# Altium footprint library ElectromagneticPositioning.PcbLib: 24 footprints (part 2 of 2)
Each footprint in its own frame and in the unit in brackets; x right, y up, seen from the top. Pads: shape width x height; smd on the part's side, far side on the other; paste and mask are expansions set on the pad; w line width, h text height; cw(c..) or ccw(c..) is an arc to the next point about the centre after c.
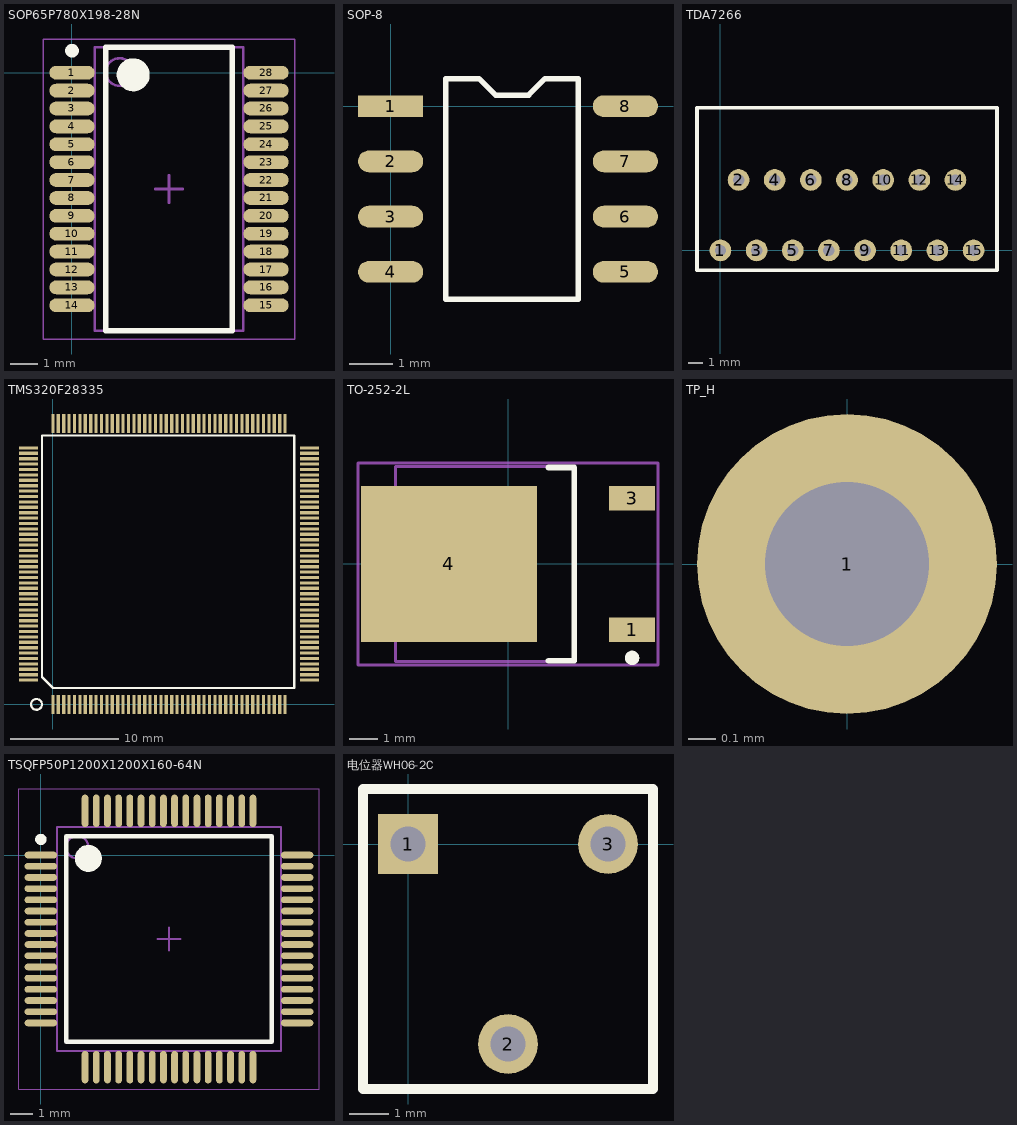
[diagram p1: the footprints below, top view; thin cyan lines are the x and y axes]

## SOP65P780X198-28N [mm]
pads (28):
  oval 1.65x0.5 smd: 1(0,0) 2(0,-0.65) 3(0,-1.3) 4(0,-1.95) 5(0,-2.6) 6(0,-3.25) 7(0,-3.9) 8(0,-4.55) 9(0,-5.2) 10(0,-5.85) 11(0,-6.5) 12(0,-7.15) 13(0,-7.8) 14(0,-8.45) 15(7.05,-8.45) 16(7.05,-7.8) 17(7.05,-7.15) 18(7.05,-6.5) 19(7.05,-5.85) 20(7.05,-5.2) 21(7.05,-4.55) 22(7.05,-3.9) 23(7.05,-3.25) 24(7.05,-2.6) 25(7.05,-1.95) 26(7.05,-1.3) 27(7.05,-0.65) 28(7.05,0)
Top Overlay:
  circle w0.6: c2.225,-0.075 r0.3
  circle w0.25: c0,0.8 r0.125
  lines w0.2: 1.225,-9.375 5.825,-9.375 5.825,0.925 1.225,0.925 1.225,-9.375
Mechanical 13:
  circle w0.1: c1.725,0.025 r0.5
  lines w0.1: 0.825,-9.375 6.225,-9.375 6.225,0.925 0.825,0.925 0.825,-9.375
Mechanical 15:
  lines w0.05: -1.05,-9.675 8.1,-9.675 8.1,1.225 -1.05,1.225 -1.05,-9.675
  lines w0.1: 3.025,-4.225 4.025,-4.225 ; 3.525,-4.725 3.525,-3.725
3D body: height 1.98, standoff 0.05, extent 0.825,-9.375 6.225,0.925

## SOP-8 [mm]
pads (8):
  rect 1.5x0.5 smd: 1(0,0)
  oval 1.5x0.5 smd: 2(0,-1.27) 3(0,-2.54) 4(0,-3.81) 5(5.4,-3.81) 6(5.4,-2.54) 7(5.4,-1.27) 8(5.4,0)
Top Overlay:
  lines w0.127: 1.27,-4.445 4.318,-4.445 4.318,0.635 3.556,0.635 3.175,0.254 2.413,0.254 2.032,0.635 1.27,0.635 1.27,-4.445

## TDA7266 [mil]
pads (15):
  round 60 hole 31.5: 1(0,0) 2(50,195) 3(100,0) 4(150,195) 5(200,0) 6(250,195) 7(300,0) 8(350,195) 9(400,0) 10(450,195) 11(500,0) 12(550,195) 13(600,0) 14(650,195) 15(700,0)
Top Overlay:
  lines w10: -65,-55 765,-55 765,395 390,395 -65,395 -65,-55

## TMS320F28335 [mm]
pads (176):
  rect 0.3x1.778 smd: 1(0,0) 2(0.5,0) 3(1,0) 4(1.5,0) 5(2,0) 6(2.5,0) 7(3,0) 8(3.5,0) 9(4,0) 10(4.5,0) 11(5,0) 12(5.5,0) 13(6,0) 14(6.5,0) 15(7,0) 16(7.5,0) 17(8,0) 18(8.5,0) 19(9,0) 20(9.5,0) 21(10,0) 22(10.5,0) 23(11,0) 24(11.5,0) 25(12,0) 26(12.5,0) 27(13,0) 28(13.5,0) 29(14,0) 30(14.5,0) 31(15,0) 32(15.5,0) 33(16,0) 34(16.5,0) 35(17,0) 36(17.5,0) 37(18,0) 38(18.5,0) 39(19,0) 40(19.5,0) 41(20,0) 42(20.5,0) 43(21,0) 44(21.5,0) 89(21.5,26) 90(21,26) 91(20.5,26) 92(20,26) 93(19.5,26) 94(19,26) 95(18.5,26) 96(18,26) 97(17.5,26) 98(17,26) 99(16.5,26) 100(16,26) 101(15.5,26) 102(15,26) 103(14.5,26) 104(14,26) 105(13.5,26) 106(13,26) 107(12.5,26) 108(12,26) 109(11.5,26) 110(11,26) 111(10.5,26) 112(10,26) 113(9.5,26) 114(9,26) 115(8.5,26) 116(8,26) 117(7.5,26) 118(7,26) 119(6.5,26) 120(6,26) 121(5.5,26) 122(5,26) 123(4.5,26) 124(4,26) 125(3.5,26) 126(3,26) 127(2.5,26) 128(2,26) 129(1.5,26) 130(1,26) 131(0.5,26) 132(0,26)
  rect 1.778x0.3 smd: 45(23.75,2.25) 46(23.75,2.75) 47(23.75,3.25) 48(23.75,3.75) 49(23.75,4.25) 50(23.75,4.75) 51(23.75,5.25) 52(23.75,5.75) 53(23.75,6.25) 54(23.75,6.75) 55(23.75,7.25) 56(23.75,7.75) 57(23.75,8.25) 58(23.75,8.75) 59(23.75,9.25) 60(23.75,9.75) 61(23.75,10.25) 62(23.75,10.75) 63(23.75,11.25) 64(23.75,11.75) 65(23.75,12.25) 66(23.75,12.75) 67(23.75,13.25) 68(23.75,13.75) 69(23.75,14.25) 70(23.75,14.75) 71(23.75,15.25) 72(23.75,15.75) 73(23.75,16.25) 74(23.75,16.75) 75(23.75,17.25) 76(23.75,17.75) 77(23.75,18.25) 78(23.75,18.75) 79(23.75,19.25) 80(23.75,19.75) 81(23.75,20.25) 82(23.75,20.75) 83(23.75,21.25) 84(23.75,21.75) 85(23.75,22.25) 86(23.75,22.75) 87(23.75,23.25) 88(23.75,23.75) 133(-2.25,23.75) 134(-2.25,23.25) 135(-2.25,22.75) 136(-2.25,22.25) 137(-2.25,21.75) 138(-2.25,21.25) 139(-2.25,20.75) 140(-2.25,20.25) 141(-2.25,19.75) 142(-2.25,19.25) 143(-2.25,18.75) 144(-2.25,18.25) 145(-2.25,17.75) 146(-2.25,17.25) 147(-2.25,16.75) 148(-2.25,16.25) 149(-2.25,15.75) 150(-2.25,15.25) 151(-2.25,14.75) 152(-2.25,14.25) 153(-2.25,13.75) 154(-2.25,13.25) 155(-2.25,12.75) 156(-2.25,12.25) 157(-2.25,11.75) 158(-2.25,11.25) 159(-2.25,10.75) 160(-2.25,10.25) 161(-2.25,9.75) 162(-2.25,9.25) 163(-2.25,8.75) 164(-2.25,8.25) 165(-2.25,7.75) 166(-2.25,7.25) 167(-2.25,6.75) 168(-2.25,6.25) 169(-2.25,5.75) 170(-2.25,5.25) 171(-2.25,4.75) 172(-2.25,4.25) 173(-2.25,3.75) 174(-2.25,3.25) 175(-2.25,2.75) 176(-2.25,2.25)
Top Overlay:
  circle w0.2: c-1.516,0 r0.5
  lines w0.203: -1.016,2.54 0,1.524 22.352,1.524 22.352,24.892 -1.016,24.892 -1.016,2.54

## TO-252-2L [mm]
pads (3):
  rect 1.6x0.85 smd: 1(4.3,-2.28) 3(4.3,2.28)
  rect 6.1x5.4 smd: 4(-2.05,0)
Top Overlay:
  circle w0.25: c4.3,-3.255 r0.125
  lines w0.2: 1.4,-3.35 2.3,-3.35 2.3,3.35 1.4,3.35
Mechanical 13:
  lines w0.1: -3.9,-3.375 2.3,-3.375 2.3,3.375 -3.9,3.375 -3.9,-3.375
Mechanical 15:
  lines w0.1: -0.5,0 0.5,0 ; 0,-0.5 0,0.5 ; -5.2,-3.5 5.2,-3.5 5.2,3.5 -5.2,3.5 -5.2,-3.5
3D body "User Library-DPAK_TO-252AA.STEP": height 2.37, standoff -0.03, extent -5.096,-3.367 5.004,3.367

## TP_H [mm]
pads (1):
  round 1.1 hole 0.6: 1(0,0)

## TSQFP50P1200X1200X160-64N [mm]
pads (64):
  oval 1.45x0.3 smd: 1(0,0) 2(0,-0.5) 3(0,-1) 4(0,-1.5) 5(0,-2) 6(0,-2.5) 7(0,-3) 8(0,-3.5) 9(0,-4) 10(0,-4.5) 11(0,-5) 12(0,-5.5) 13(0,-6) 14(0,-6.5) 15(0,-7) 16(0,-7.5) 33(11.45,-7.5) 34(11.45,-7) 35(11.45,-6.5) 36(11.45,-6) 37(11.45,-5.5) 38(11.45,-5) 39(11.45,-4.5) 40(11.45,-4) 41(11.45,-3.5) 42(11.45,-3) 43(11.45,-2.5) 44(11.45,-2) 45(11.45,-1.5) 46(11.45,-1) 47(11.45,-0.5) 48(11.45,0)
  oval 0.3x1.45 smd: 17(1.975,-9.475) 18(2.475,-9.475) 19(2.975,-9.475) 20(3.475,-9.475) 21(3.975,-9.475) 22(4.475,-9.475) 23(4.975,-9.475) 24(5.475,-9.475) 25(5.975,-9.475) 26(6.475,-9.475) 27(6.975,-9.475) 28(7.475,-9.475) 29(7.975,-9.475) 30(8.475,-9.475) 31(8.975,-9.475) 32(9.475,-9.475) 49(9.475,1.975) 50(8.975,1.975) 51(8.475,1.975) 52(7.975,1.975) 53(7.475,1.975) 54(6.975,1.975) 55(6.475,1.975) 56(5.975,1.975) 57(5.475,1.975) 58(4.975,1.975) 59(4.475,1.975) 60(3.975,1.975) 61(3.475,1.975) 62(2.975,1.975) 63(2.475,1.975) 64(1.975,1.975)
Top Overlay:
  circle w0.6: c2.125,-0.15 r0.3
  circle w0.25: c0,0.7 r0.125
  lines w0.2: 1.125,-8.35 10.325,-8.35 10.325,0.85 1.125,0.85 1.125,-8.35
Mechanical 13:
  circle w0.1: c1.625,0.35 r0.5
  lines w0.1: 0.725,-8.75 10.725,-8.75 10.725,1.25 0.725,1.25 0.725,-8.75
Mechanical 15:
  lines w0.05: -0.975,-10.45 12.425,-10.45 12.425,2.95 -0.975,2.95 -0.975,-10.45
  lines w0.1: 5.225,-3.75 6.225,-3.75 ; 5.725,-4.25 5.725,-3.25
3D body: height 1.6, standoff 0.05, extent 0.725,-8.75 10.725,1.25

## 电位器WH06-2C [mil]
pads (3):
  rect 60x60 hole 35.43: 1(0,0)
  round 60 hole 35.43: 2(100,-200) 3(200,0)
Top Overlay:
  lines w10: -45,-245 245,-245 245,-147.52 245,-1.85 245,55 -45,55 -45,-245